# EAGLE library part ADR34* (library 1dah)
High accuracy voltage source
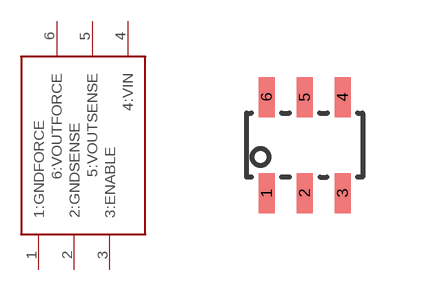
[diagram p37: symbol with the pads of SOT23-6LEAD; footprint SOT23-6LEAD]

Designator prefix -

## ADR3412  [SOT23-6LEAD]
1  1:GNDFORCE
2  2:GNDSENSE
3  3:ENABLE
4  4:VIN
5  5:VOUTSENSE
6  6:VOUTFORCE

## Footprint SOT23-6LEAD (pad centres in mm)
smd 0.4 x 1: 1 -0.95,-1.2; 2 0,-1.2; 3 0.95,-1.2; 4 0.95,1.2; 5 0,1.2; 6 -0.95,1.2